# Altium footprint library 以太网连接器.PcbLib: 1 footprints
Each footprint in its own frame and in the unit in brackets; x right, y up, seen from the top. Pads: shape width x height; smd on the part's side, far side on the other; paste and mask are expansions set on the pad; w line width, h text height; cw(c..) or ccw(c..) is an arc to the next point about the centre after c.
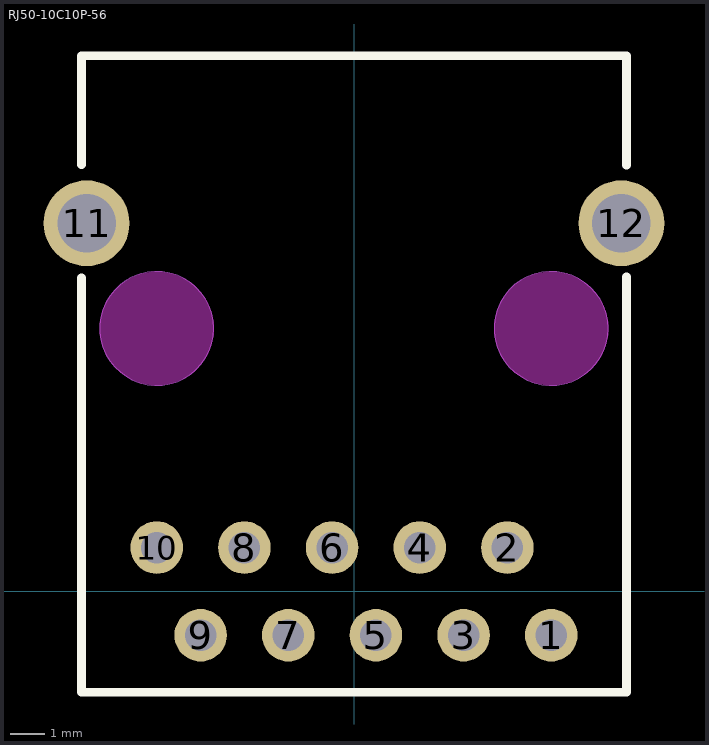
[diagram p0: the footprint, top view; thin cyan lines are the x and y axes]

## RJ50-10C10P-56 [mil]
pads (12):
  round 60 hole 36: 1(225,-50) 2(175,50) 3(125,-50) 4(75,50) 5(25,-50) 6(-25,50) 7(-75,-50) 8(-125,50) 9(-175,-50) 10(-225,50)
  round 98 hole 67: 11(-305,420) 12(305,420)
Top Overlay:
  lines w10: -311.02,357.42 -311.02,-115 311.02,-115 311.02,358.98 ; -311.02,486.77 -311.02,611.02 311.02,611.02 311.02,486.47
Keep-Out Layer:
  board cut-out: 289.96,300 289.94,306.39 287.42,318.9 282.5,330.69 275.39,341.3 266.34,350.31 255.72,357.4 243.91,362.28 231.39,364.76 218.61,364.76 206.09,362.28 194.29,357.4 183.66,350.31 174.61,341.3 167.5,330.69 162.58,318.9 160.06,306.39 160.04,300 160.06,293.61 162.58,281.1 167.5,269.31 174.61,258.7 183.66,249.69 194.29,242.6 206.09,237.72 218.61,235.24 231.39,235.24 243.91,237.72 255.72,242.6 266.34,249.69 275.39,258.7 282.5,269.31 287.42,281.1 289.94,293.61 289.96,300
  board cut-out: -160.04,300 -160.06,306.39 -162.58,318.9 -167.5,330.69 -174.61,341.3 -183.66,350.31 -194.28,357.4 -206.09,362.28 -218.61,364.76 -231.39,364.76 -243.91,362.28 -255.71,357.4 -266.34,350.31 -275.39,341.3 -282.5,330.69 -287.42,318.9 -289.94,306.39 -289.96,300 -289.94,293.61 -287.42,281.1 -282.5,269.31 -275.39,258.7 -266.34,249.69 -255.71,242.6 -243.91,237.72 -231.39,235.24 -218.61,235.24 -206.09,237.72 -194.28,242.6 -183.66,249.69 -174.61,258.7 -167.5,269.31 -162.58,281.1 -160.06,293.61 -160.04,300
Mechanical 1:
  circle w1: c225,300 r64.96
  circle w1: c-225,300 r64.96
Multi-Layer keep-out:
  region: 289.96,300 289.94,306.39 287.42,318.9 282.5,330.69 275.39,341.3 266.34,350.31 255.72,357.4 243.91,362.28 231.39,364.76 218.61,364.76 206.09,362.28 194.29,357.4 183.66,350.31 174.61,341.3 167.5,330.69 162.58,318.9 160.06,306.39 160.04,300 160.06,293.61 162.58,281.1 167.5,269.31 174.61,258.7 183.66,249.69 194.29,242.6 206.09,237.72 218.61,235.24 231.39,235.24 243.91,237.72 255.72,242.6 266.34,249.69 275.39,258.7 282.5,269.31 287.42,281.1 289.94,293.61 289.96,300
  region: -160.04,300 -160.06,306.39 -162.58,318.9 -167.5,330.69 -174.61,341.3 -183.66,350.31 -194.28,357.4 -206.09,362.28 -218.61,364.76 -231.39,364.76 -243.91,362.28 -255.71,357.4 -266.34,350.31 -275.39,341.3 -282.5,330.69 -287.42,318.9 -289.94,306.39 -289.96,300 -289.94,293.61 -287.42,281.1 -282.5,269.31 -275.39,258.7 -266.34,249.69 -255.71,242.6 -243.91,237.72 -231.39,235.24 -218.61,235.24 -206.09,237.72 -194.28,242.6 -183.66,249.69 -174.61,258.7 -167.5,269.31 -162.58,281.1 -160.06,293.61 -160.04,300
3D body "U1.step": height 503.94, standoff -133.86, extent -299.21,-97.24 303.15,601.18